# Altium footprint library Connector_PinHeader_2.54mm.PcbLib: 278 footprints (part 10 of 18)
Each footprint in its own frame and in the unit in brackets; x right, y up, seen from the top. Pads: shape width x height; smd on the part's side, far side on the other; paste and mask are expansions set on the pad; w line width, h text height; cw(c..) or ccw(c..) is an arc to the next point about the centre after c.
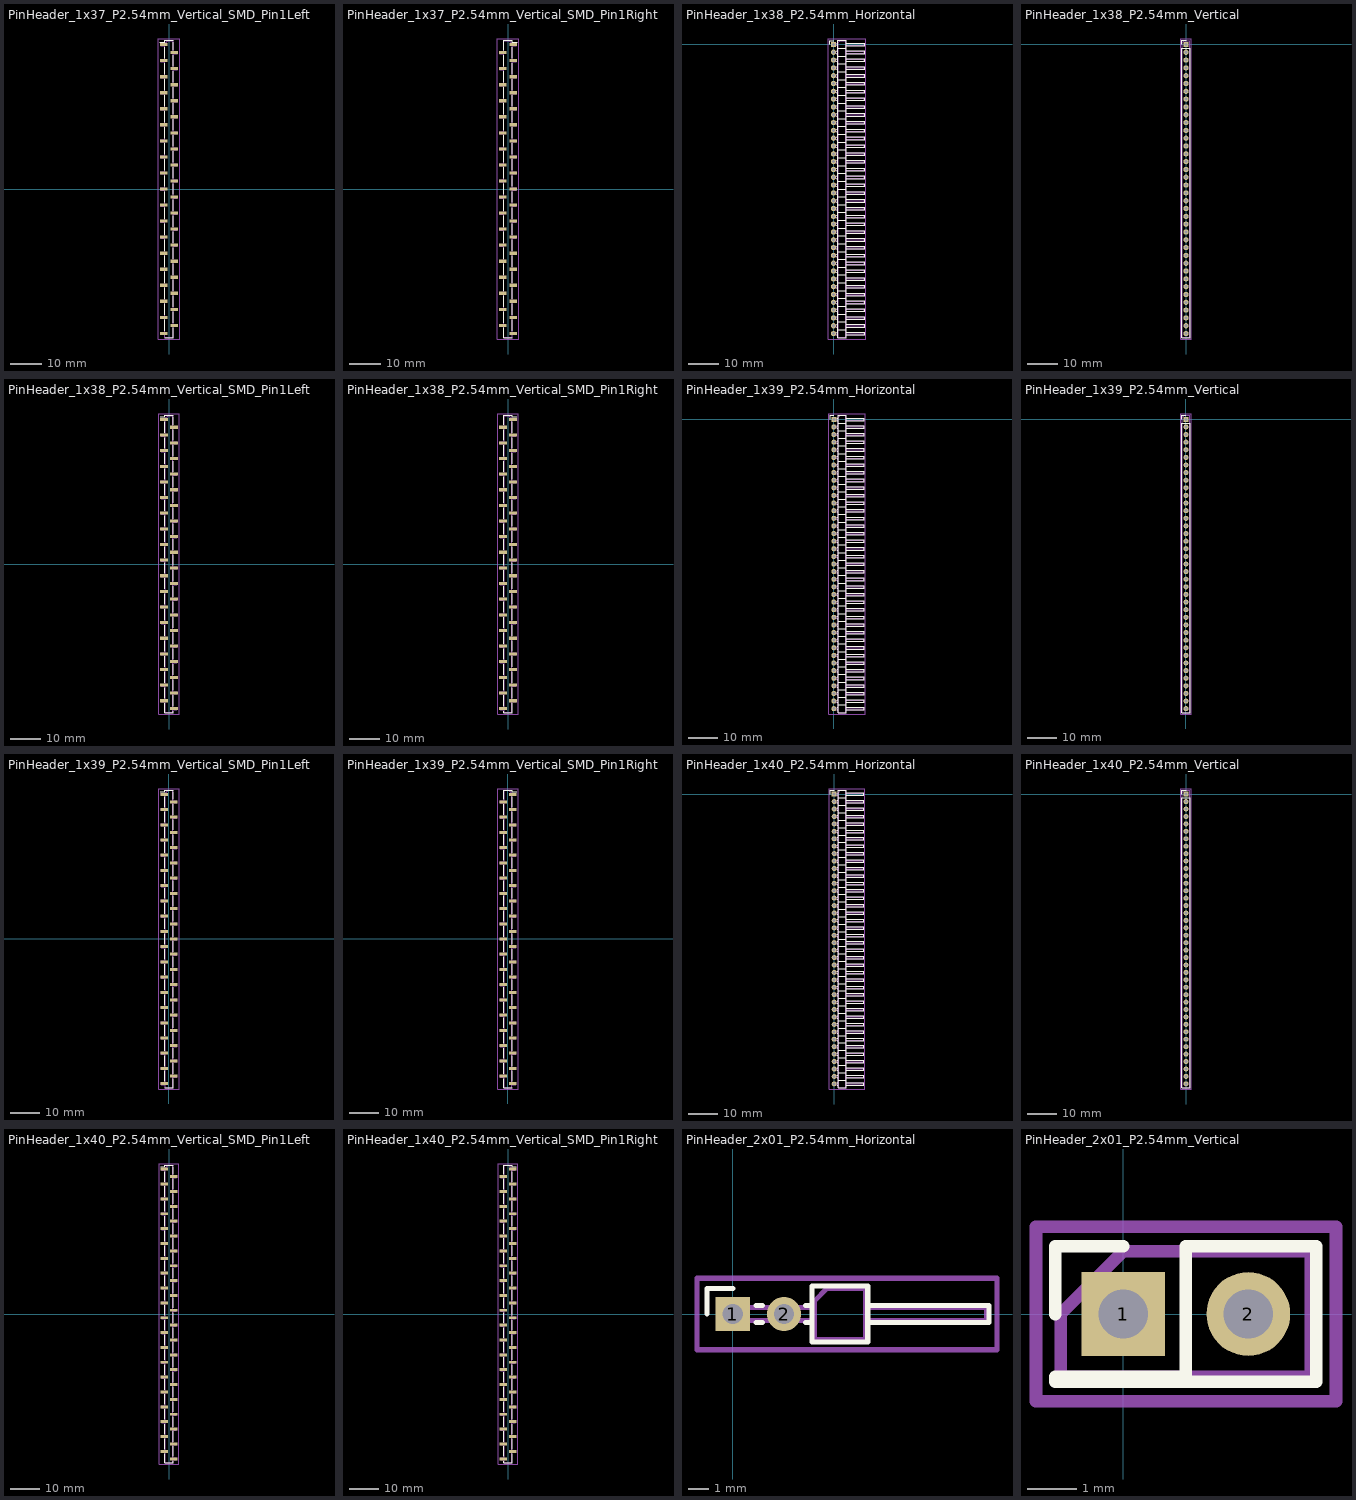
[diagram p9: the footprints below, top view; thin cyan lines are the x and y axes]

## PinHeader_1x37_P2.54mm_Vertical_SMD_Pin1Left [mm]
pads (37):
  rect 2.51x1 smd: 1(-1.655,45.72) 2(1.655,43.18) 3(-1.655,40.64) 4(1.655,38.1) 5(-1.655,35.56) 6(1.655,33.02) 7(-1.655,30.48) 8(1.655,27.94) 9(-1.655,25.4) 10(1.655,22.86) 11(-1.655,20.32) 12(1.655,17.78) 13(-1.655,15.24) 14(1.655,12.7) 15(-1.655,10.16) 16(1.655,7.62) 17(-1.655,5.08) 18(1.655,2.54) 19(-1.655,0) 20(1.655,-2.54) 21(-1.655,-5.08) 22(1.655,-7.62) 23(-1.655,-10.16) 24(1.655,-12.7) 25(-1.655,-15.24) 26(1.655,-17.78) 27(-1.655,-20.32) 28(1.655,-22.86) 29(-1.655,-25.4) 30(1.655,-27.94) 31(-1.655,-30.48) 32(1.655,-33.02) 33(-1.655,-35.56) 34(1.655,-38.1) 35(-1.655,-40.64) 36(1.655,-43.18) 37(-1.655,-45.72)
F.SilkS:
  lines w0.254: -2.85,46.53 -1.38,46.53 -1.38,47.1 1.38,47.1 ; -1.38,-47.1 1.38,-47.1 ; -1.38,-44.91 -1.38,-41.45 ; -1.38,-39.83 -1.38,-36.37 ; -1.38,-34.75 -1.38,-31.29 ; -1.38,-29.67 -1.38,-26.21 ; -1.38,-24.59 -1.38,-21.13 ; -1.38,-19.51 -1.38,-16.05 ; -1.38,-14.43 -1.38,-10.97 ; -1.38,-9.35 -1.38,-5.89 ; -1.38,-4.27 -1.38,-0.81 ; -1.38,0.81 -1.38,4.27 ; -1.38,5.89 -1.38,9.35 ; -1.38,10.97 -1.38,14.43 ; -1.38,16.05 -1.38,19.51 ; -1.38,21.13 -1.38,24.59 ; -1.38,26.21 -1.38,29.67 ; -1.38,31.29 -1.38,34.75 ; -1.38,36.37 -1.38,39.83 ; -1.38,41.45 -1.38,44.91 ; 1.38,-46.53 1.38,-47.1 ; 1.38,-43.99 1.38,-47.1 ; 1.38,-42.37 1.38,-38.91 ; 1.38,-37.29 1.38,-33.83 ; 1.38,-32.21 1.38,-28.75 ; 1.38,-27.13 1.38,-23.67 ; 1.38,-22.05 1.38,-18.59 ; 1.38,-16.97 1.38,-13.51 ; 1.38,-11.89 1.38,-8.43 ; 1.38,-6.81 1.38,-3.35 ; 1.38,-1.73 1.38,1.73 ; 1.38,3.35 1.38,6.81 ; 1.38,8.43 1.38,11.89 ; 1.38,13.51 1.38,16.97 ; 1.38,18.59 1.38,22.05 ; 1.38,23.67 1.38,27.13 ; 1.38,28.75 1.38,32.21 ; 1.38,33.83 1.38,37.29 ; 1.38,38.91 1.38,42.37 ; 1.38,43.99 1.38,46.53
Top Assembly:
  lines w0.254: -1.27,-46.04 -2.54,-46.04 -2.54,-45.4 -1.27,-45.4 ; -1.27,-40.96 -2.54,-40.96 -2.54,-40.32 -1.27,-40.32 ; -1.27,-35.88 -2.54,-35.88 -2.54,-35.24 -1.27,-35.24 ; -1.27,-30.8 -2.54,-30.8 -2.54,-30.16 -1.27,-30.16 ; -1.27,-25.72 -2.54,-25.72 -2.54,-25.08 -1.27,-25.08 ; -1.27,-20.64 -2.54,-20.64 -2.54,-20 -1.27,-20 ; -1.27,-15.56 -2.54,-15.56 -2.54,-14.92 -1.27,-14.92 ; -1.27,-10.48 -2.54,-10.48 -2.54,-9.84 -1.27,-9.84 ; -1.27,-5.4 -2.54,-5.4 -2.54,-4.76 -1.27,-4.76 ; -1.27,-0.32 -2.54,-0.32 -2.54,0.32 -1.27,0.32 ; -1.27,4.76 -2.54,4.76 -2.54,5.4 -1.27,5.4 ; -1.27,9.84 -2.54,9.84 -2.54,10.48 -1.27,10.48 ; -1.27,14.92 -2.54,14.92 -2.54,15.56 -1.27,15.56 ; -1.27,20 -2.54,20 -2.54,20.64 -1.27,20.64 ; -1.27,25.08 -2.54,25.08 -2.54,25.72 -1.27,25.72 ; -1.27,30.16 -2.54,30.16 -2.54,30.8 -1.27,30.8 ; -1.27,35.24 -2.54,35.24 -2.54,35.88 -1.27,35.88 ; -1.27,40.32 -2.54,40.32 -2.54,40.96 -1.27,40.96 ; -1.27,45.4 -2.54,45.4 -2.54,46.04 -1.27,46.04 ; 1.27,-43.5 2.54,-43.5 2.54,-42.86 1.27,-42.86 ; 1.27,-38.42 2.54,-38.42 2.54,-37.78 1.27,-37.78 ; 1.27,-33.34 2.54,-33.34 2.54,-32.7 1.27,-32.7 ; 1.27,-28.26 2.54,-28.26 2.54,-27.62 1.27,-27.62 ; 1.27,-23.18 2.54,-23.18 2.54,-22.54 1.27,-22.54 ; 1.27,-18.1 2.54,-18.1 2.54,-17.46 1.27,-17.46 ; 1.27,-13.02 2.54,-13.02 2.54,-12.38 1.27,-12.38 ; 1.27,-7.94 2.54,-7.94 2.54,-7.3 1.27,-7.3 ; 1.27,-2.86 2.54,-2.86 2.54,-2.22 1.27,-2.22 ; 1.27,2.22 2.54,2.22 2.54,2.86 1.27,2.86 ; 1.27,7.3 2.54,7.3 2.54,7.94 1.27,7.94 ; 1.27,12.38 2.54,12.38 2.54,13.02 1.27,13.02 ; 1.27,17.46 2.54,17.46 2.54,18.1 1.27,18.1 ; 1.27,22.54 2.54,22.54 2.54,23.18 1.27,23.18 ; 1.27,27.62 2.54,27.62 2.54,28.26 1.27,28.26 ; 1.27,32.7 2.54,32.7 2.54,33.34 1.27,33.34 ; 1.27,37.78 2.54,37.78 2.54,38.42 1.27,38.42 ; 1.27,42.86 2.54,42.86 2.54,43.5 1.27,43.5 ; -1.27,46.04 -1.27,-46.99 1.27,-46.99 1.27,46.99 -0.32,46.99 -1.27,46.04
  text "'.Designator'" at 0.84,-4.047 h1
Top Courtyard:
  lines w0.254: -3.41,-47.49 3.41,-47.49 3.41,47.49 -3.41,47.49 -3.41,-47.49
Top Designator:
  text ".Designator" at -7.618,-0.508 h1.52

## PinHeader_1x37_P2.54mm_Vertical_SMD_Pin1Right [mm]
pads (37):
  rect 2.51x1 smd: 1(1.655,45.72) 2(-1.655,43.18) 3(1.655,40.64) 4(-1.655,38.1) 5(1.655,35.56) 6(-1.655,33.02) 7(1.655,30.48) 8(-1.655,27.94) 9(1.655,25.4) 10(-1.655,22.86) 11(1.655,20.32) 12(-1.655,17.78) 13(1.655,15.24) 14(-1.655,12.7) 15(1.655,10.16) 16(-1.655,7.62) 17(1.655,5.08) 18(-1.655,2.54) 19(1.655,0) 20(-1.655,-2.54) 21(1.655,-5.08) 22(-1.655,-7.62) 23(1.655,-10.16) 24(-1.655,-12.7) 25(1.655,-15.24) 26(-1.655,-17.78) 27(1.655,-20.32) 28(-1.655,-22.86) 29(1.655,-25.4) 30(-1.655,-27.94) 31(1.655,-30.48) 32(-1.655,-33.02) 33(1.655,-35.56) 34(-1.655,-38.1) 35(1.655,-40.64) 36(-1.655,-43.18) 37(1.655,-45.72)
F.SilkS:
  lines w0.254: -1.38,-46.53 -1.38,-47.1 ; -1.38,-43.99 -1.38,-47.1 ; -1.38,-42.37 -1.38,-38.91 ; -1.38,-37.29 -1.38,-33.83 ; -1.38,-32.21 -1.38,-28.75 ; -1.38,-27.13 -1.38,-23.67 ; -1.38,-22.05 -1.38,-18.59 ; -1.38,-16.97 -1.38,-13.51 ; -1.38,-11.89 -1.38,-8.43 ; -1.38,-6.81 -1.38,-3.35 ; -1.38,-1.73 -1.38,1.73 ; -1.38,3.35 -1.38,6.81 ; -1.38,8.43 -1.38,11.89 ; -1.38,13.51 -1.38,16.97 ; -1.38,18.59 -1.38,22.05 ; -1.38,23.67 -1.38,27.13 ; -1.38,28.75 -1.38,32.21 ; -1.38,33.83 -1.38,37.29 ; -1.38,38.91 -1.38,42.37 ; -1.38,46.53 -1.38,43.99 -1.38,47.1 1.38,47.1 1.38,46.53 2.85,46.53 ; 1.38,-47.1 -1.38,-47.1 ; 1.38,-44.91 1.38,-41.45 ; 1.38,-39.83 1.38,-36.37 ; 1.38,-34.75 1.38,-31.29 ; 1.38,-29.67 1.38,-26.21 ; 1.38,-24.59 1.38,-21.13 ; 1.38,-19.51 1.38,-16.05 ; 1.38,-14.43 1.38,-10.97 ; 1.38,-9.35 1.38,-5.89 ; 1.38,-4.27 1.38,-0.81 ; 1.38,0.81 1.38,4.27 ; 1.38,5.89 1.38,9.35 ; 1.38,10.97 1.38,14.43 ; 1.38,16.05 1.38,19.51 ; 1.38,21.13 1.38,24.59 ; 1.38,26.21 1.38,29.67 ; 1.38,31.29 1.38,34.75 ; 1.38,36.37 1.38,39.83 ; 1.38,41.45 1.38,44.91
Top Assembly:
  lines w0.254: -1.27,-43.5 -2.54,-43.5 -2.54,-42.86 -1.27,-42.86 ; -1.27,-38.42 -2.54,-38.42 -2.54,-37.78 -1.27,-37.78 ; -1.27,-33.34 -2.54,-33.34 -2.54,-32.7 -1.27,-32.7 ; -1.27,-28.26 -2.54,-28.26 -2.54,-27.62 -1.27,-27.62 ; -1.27,-23.18 -2.54,-23.18 -2.54,-22.54 -1.27,-22.54 ; -1.27,-18.1 -2.54,-18.1 -2.54,-17.46 -1.27,-17.46 ; -1.27,-13.02 -2.54,-13.02 -2.54,-12.38 -1.27,-12.38 ; -1.27,-7.94 -2.54,-7.94 -2.54,-7.3 -1.27,-7.3 ; -1.27,-2.86 -2.54,-2.86 -2.54,-2.22 -1.27,-2.22 ; -1.27,2.22 -2.54,2.22 -2.54,2.86 -1.27,2.86 ; -1.27,7.3 -2.54,7.3 -2.54,7.94 -1.27,7.94 ; -1.27,12.38 -2.54,12.38 -2.54,13.02 -1.27,13.02 ; -1.27,17.46 -2.54,17.46 -2.54,18.1 -1.27,18.1 ; -1.27,22.54 -2.54,22.54 -2.54,23.18 -1.27,23.18 ; -1.27,27.62 -2.54,27.62 -2.54,28.26 -1.27,28.26 ; -1.27,32.7 -2.54,32.7 -2.54,33.34 -1.27,33.34 ; -1.27,37.78 -2.54,37.78 -2.54,38.42 -1.27,38.42 ; -1.27,42.86 -2.54,42.86 -2.54,43.5 -1.27,43.5 ; 1.27,-46.04 2.54,-46.04 2.54,-45.4 1.27,-45.4 ; 1.27,-40.96 2.54,-40.96 2.54,-40.32 1.27,-40.32 ; 1.27,-35.88 2.54,-35.88 2.54,-35.24 1.27,-35.24 ; 1.27,-30.8 2.54,-30.8 2.54,-30.16 1.27,-30.16 ; 1.27,-25.72 2.54,-25.72 2.54,-25.08 1.27,-25.08 ; 1.27,-20.64 2.54,-20.64 2.54,-20 1.27,-20 ; 1.27,-15.56 2.54,-15.56 2.54,-14.92 1.27,-14.92 ; 1.27,-10.48 2.54,-10.48 2.54,-9.84 1.27,-9.84 ; 1.27,-5.4 2.54,-5.4 2.54,-4.76 1.27,-4.76 ; 1.27,-0.32 2.54,-0.32 2.54,0.32 1.27,0.32 ; 1.27,4.76 2.54,4.76 2.54,5.4 1.27,5.4 ; 1.27,9.84 2.54,9.84 2.54,10.48 1.27,10.48 ; 1.27,14.92 2.54,14.92 2.54,15.56 1.27,15.56 ; 1.27,20 2.54,20 2.54,20.64 1.27,20.64 ; 1.27,25.08 2.54,25.08 2.54,25.72 1.27,25.72 ; 1.27,30.16 2.54,30.16 2.54,30.8 1.27,30.8 ; 1.27,35.24 2.54,35.24 2.54,35.88 1.27,35.88 ; 1.27,40.32 2.54,40.32 2.54,40.96 1.27,40.96 ; 1.27,45.4 2.54,45.4 2.54,46.04 1.27,46.04 ; 1.27,46.04 1.27,-46.99 -1.27,-46.99 -1.27,46.99 0.32,46.99 1.27,46.04
  text "'.Designator'" at 0.84,-4.047 h1
Top Courtyard:
  lines w0.254: -3.41,-47.49 3.41,-47.49 3.41,47.49 -3.41,47.49 -3.41,-47.49
Top Designator:
  text ".Designator" at -7.618,-0.508 h1.52

## PinHeader_1x38_P2.54mm_Horizontal [mm]
pads (38):
  rect 1.7x1.7 hole 1: 1(0,0)
  round 1.7 hole 1: 2(0,-2.54) 3(0,-5.08) 4(0,-7.62) 5(0,-10.16) 6(0,-12.7) 7(0,-15.24) 8(0,-17.78) 9(0,-20.32) 10(0,-22.86) 11(0,-25.4) 12(0,-27.94) 13(0,-30.48) 14(0,-33.02) 15(0,-35.56) 16(0,-38.1) 17(0,-40.64) 18(0,-43.18) 19(0,-45.72) 20(0,-48.26) 21(0,-50.8) 22(0,-53.34) 23(0,-55.88) 24(0,-58.42) 25(0,-60.96) 26(0,-63.5) 27(0,-66.04) 28(0,-68.58) 29(0,-71.12) 30(0,-73.66) 31(0,-76.2) 32(0,-78.74) 33(0,-81.28) 34(0,-83.82) 35(0,-86.36) 36(0,-88.9) 37(0,-91.44) 38(0,-93.98)
F.SilkS:
  drawing of 234 lines, arcs and shapes, not listed
Top Assembly:
  drawing of 233 lines, arcs and shapes, not listed
  text "'.Designator'" at 3.61,-51.037 h1
Top Courtyard:
  lines w0.254: -1.77,-95.75 10.54,-95.75 10.54,1.77 -1.77,1.77 -1.77,-95.75
Top Designator:
  text ".Designator" at -3.233,-47.498 h1.52

## PinHeader_1x38_P2.54mm_Vertical [mm]
pads (38):
  rect 1.7x1.7 hole 1: 1(0,0)
  round 1.7 hole 1: 2(0,-2.54) 3(0,-5.08) 4(0,-7.62) 5(0,-10.16) 6(0,-12.7) 7(0,-15.24) 8(0,-17.78) 9(0,-20.32) 10(0,-22.86) 11(0,-25.4) 12(0,-27.94) 13(0,-30.48) 14(0,-33.02) 15(0,-35.56) 16(0,-38.1) 17(0,-40.64) 18(0,-43.18) 19(0,-45.72) 20(0,-48.26) 21(0,-50.8) 22(0,-53.34) 23(0,-55.88) 24(0,-58.42) 25(0,-60.96) 26(0,-63.5) 27(0,-66.04) 28(0,-68.58) 29(0,-71.12) 30(0,-73.66) 31(0,-76.2) 32(0,-78.74) 33(0,-81.28) 34(0,-83.82) 35(0,-86.36) 36(0,-88.9) 37(0,-91.44) 38(0,-93.98)
F.SilkS:
  lines w0.254: -1.38,0 -1.38,1.38 0,1.38 ; -1.38,-95.36 1.38,-95.36 1.38,-1.27 -1.38,-1.27 -1.38,-95.36
Top Assembly:
  lines w0.254: -1.27,-95.25 1.27,-95.25 1.27,1.27 -0.635,1.27 -1.27,0.635 -1.27,-95.25
  text "'.Designator'" at 0.84,-51.037 h1
Top Courtyard:
  lines w0.254: -1.77,-95.75 1.77,-95.75 1.77,1.77 -1.77,1.77 -1.77,-95.75
Top Designator:
  text ".Designator" at -7.618,-47.498 h1.52

## PinHeader_1x38_P2.54mm_Vertical_SMD_Pin1Left [mm]
pads (38):
  rect 2.51x1 smd: 1(-1.655,46.99) 2(1.655,44.45) 3(-1.655,41.91) 4(1.655,39.37) 5(-1.655,36.83) 6(1.655,34.29) 7(-1.655,31.75) 8(1.655,29.21) 9(-1.655,26.67) 10(1.655,24.13) 11(-1.655,21.59) 12(1.655,19.05) 13(-1.655,16.51) 14(1.655,13.97) 15(-1.655,11.43) 16(1.655,8.89) 17(-1.655,6.35) 18(1.655,3.81) 19(-1.655,1.27) 20(1.655,-1.27) 21(-1.655,-3.81) 22(1.655,-6.35) 23(-1.655,-8.89) 24(1.655,-11.43) 25(-1.655,-13.97) 26(1.655,-16.51) 27(-1.655,-19.05) 28(1.655,-21.59) 29(-1.655,-24.13) 30(1.655,-26.67) 31(-1.655,-29.21) 32(1.655,-31.75) 33(-1.655,-34.29) 34(1.655,-36.83) 35(-1.655,-39.37) 36(1.655,-41.91) 37(-1.655,-44.45) 38(1.655,-46.99)
F.SilkS:
  lines w0.254: -2.85,47.8 -1.38,47.8 -1.38,48.37 1.38,48.37 ; -1.38,-45.26 -1.38,-48.37 1.38,-48.37 1.38,-47.8 ; -1.38,-43.64 -1.38,-40.18 ; -1.38,-38.56 -1.38,-35.1 ; -1.38,-33.48 -1.38,-30.02 ; -1.38,-28.4 -1.38,-24.94 ; -1.38,-23.32 -1.38,-19.86 ; -1.38,-18.24 -1.38,-14.78 ; -1.38,-13.16 -1.38,-9.7 ; -1.38,-8.08 -1.38,-4.62 ; -1.38,-3 -1.38,0.46 ; -1.38,2.08 -1.38,5.54 ; -1.38,7.16 -1.38,10.62 ; -1.38,12.24 -1.38,15.7 ; -1.38,17.32 -1.38,20.78 ; -1.38,22.4 -1.38,25.86 ; -1.38,27.48 -1.38,30.94 ; -1.38,32.56 -1.38,36.02 ; -1.38,37.64 -1.38,41.1 ; -1.38,42.72 -1.38,46.18 ; 1.38,-46.18 1.38,-42.72 ; 1.38,-41.1 1.38,-37.64 ; 1.38,-36.02 1.38,-32.56 ; 1.38,-30.94 1.38,-27.48 ; 1.38,-25.86 1.38,-22.4 ; 1.38,-20.78 1.38,-17.32 ; 1.38,-15.7 1.38,-12.24 ; 1.38,-10.62 1.38,-7.16 ; 1.38,-5.54 1.38,-2.08 ; 1.38,-0.46 1.38,3 ; 1.38,4.62 1.38,8.08 ; 1.38,9.7 1.38,13.16 ; 1.38,14.78 1.38,18.24 ; 1.38,19.86 1.38,23.32 ; 1.38,24.94 1.38,28.4 ; 1.38,30.02 1.38,33.48 ; 1.38,35.1 1.38,38.56 ; 1.38,40.18 1.38,43.64 ; 1.38,45.26 1.38,47.8
Top Assembly:
  lines w0.254: -1.27,-44.77 -2.54,-44.77 -2.54,-44.13 -1.27,-44.13 ; -1.27,-39.69 -2.54,-39.69 -2.54,-39.05 -1.27,-39.05 ; -1.27,-34.61 -2.54,-34.61 -2.54,-33.97 -1.27,-33.97 ; -1.27,-29.53 -2.54,-29.53 -2.54,-28.89 -1.27,-28.89 ; -1.27,-24.45 -2.54,-24.45 -2.54,-23.81 -1.27,-23.81 ; -1.27,-19.37 -2.54,-19.37 -2.54,-18.73 -1.27,-18.73 ; -1.27,-14.29 -2.54,-14.29 -2.54,-13.65 -1.27,-13.65 ; -1.27,-9.21 -2.54,-9.21 -2.54,-8.57 -1.27,-8.57 ; -1.27,-4.13 -2.54,-4.13 -2.54,-3.49 -1.27,-3.49 ; -1.27,0.95 -2.54,0.95 -2.54,1.59 -1.27,1.59 ; -1.27,6.03 -2.54,6.03 -2.54,6.67 -1.27,6.67 ; -1.27,11.11 -2.54,11.11 -2.54,11.75 -1.27,11.75 ; -1.27,16.19 -2.54,16.19 -2.54,16.83 -1.27,16.83 ; -1.27,21.27 -2.54,21.27 -2.54,21.91 -1.27,21.91 ; -1.27,26.35 -2.54,26.35 -2.54,26.99 -1.27,26.99 ; -1.27,31.43 -2.54,31.43 -2.54,32.07 -1.27,32.07 ; -1.27,36.51 -2.54,36.51 -2.54,37.15 -1.27,37.15 ; -1.27,41.59 -2.54,41.59 -2.54,42.23 -1.27,42.23 ; -1.27,46.67 -2.54,46.67 -2.54,47.31 -1.27,47.31 ; 1.27,-47.31 2.54,-47.31 2.54,-46.67 1.27,-46.67 ; 1.27,-42.23 2.54,-42.23 2.54,-41.59 1.27,-41.59 ; 1.27,-37.15 2.54,-37.15 2.54,-36.51 1.27,-36.51 ; 1.27,-32.07 2.54,-32.07 2.54,-31.43 1.27,-31.43 ; 1.27,-26.99 2.54,-26.99 2.54,-26.35 1.27,-26.35 ; 1.27,-21.91 2.54,-21.91 2.54,-21.27 1.27,-21.27 ; 1.27,-16.83 2.54,-16.83 2.54,-16.19 1.27,-16.19 ; 1.27,-11.75 2.54,-11.75 2.54,-11.11 1.27,-11.11 ; 1.27,-6.67 2.54,-6.67 2.54,-6.03 1.27,-6.03 ; 1.27,-1.59 2.54,-1.59 2.54,-0.95 1.27,-0.95 ; 1.27,3.49 2.54,3.49 2.54,4.13 1.27,4.13 ; 1.27,8.57 2.54,8.57 2.54,9.21 1.27,9.21 ; 1.27,13.65 2.54,13.65 2.54,14.29 1.27,14.29 ; 1.27,18.73 2.54,18.73 2.54,19.37 1.27,19.37 ; 1.27,23.81 2.54,23.81 2.54,24.45 1.27,24.45 ; 1.27,28.89 2.54,28.89 2.54,29.53 1.27,29.53 ; 1.27,33.97 2.54,33.97 2.54,34.61 1.27,34.61 ; 1.27,39.05 2.54,39.05 2.54,39.69 1.27,39.69 ; 1.27,44.13 2.54,44.13 2.54,44.77 1.27,44.77 ; -1.27,47.31 -1.27,-48.26 1.27,-48.26 1.27,48.26 -0.32,48.26 -1.27,47.31
  text "'.Designator'" at 0.84,-4.047 h1
Top Courtyard:
  lines w0.254: -3.41,-48.76 3.41,-48.76 3.41,48.76 -3.41,48.76 -3.41,-48.76
Top Designator:
  text ".Designator" at -7.618,-0.508 h1.52

## PinHeader_1x38_P2.54mm_Vertical_SMD_Pin1Right [mm]
pads (38):
  rect 2.51x1 smd: 1(1.655,46.99) 2(-1.655,44.45) 3(1.655,41.91) 4(-1.655,39.37) 5(1.655,36.83) 6(-1.655,34.29) 7(1.655,31.75) 8(-1.655,29.21) 9(1.655,26.67) 10(-1.655,24.13) 11(1.655,21.59) 12(-1.655,19.05) 13(1.655,16.51) 14(-1.655,13.97) 15(1.655,11.43) 16(-1.655,8.89) 17(1.655,6.35) 18(-1.655,3.81) 19(1.655,1.27) 20(-1.655,-1.27) 21(1.655,-3.81) 22(-1.655,-6.35) 23(1.655,-8.89) 24(-1.655,-11.43) 25(1.655,-13.97) 26(-1.655,-16.51) 27(1.655,-19.05) 28(-1.655,-21.59) 29(1.655,-24.13) 30(-1.655,-26.67) 31(1.655,-29.21) 32(-1.655,-31.75) 33(1.655,-34.29) 34(-1.655,-36.83) 35(1.655,-39.37) 36(-1.655,-41.91) 37(1.655,-44.45) 38(-1.655,-46.99)
F.SilkS:
  lines w0.254: -1.38,-47.8 -1.38,-48.37 1.38,-48.37 1.38,-45.26 ; -1.38,-46.18 -1.38,-42.72 ; -1.38,-41.1 -1.38,-37.64 ; -1.38,-36.02 -1.38,-32.56 ; -1.38,-30.94 -1.38,-27.48 ; -1.38,-25.86 -1.38,-22.4 ; -1.38,-20.78 -1.38,-17.32 ; -1.38,-15.7 -1.38,-12.24 ; -1.38,-10.62 -1.38,-7.16 ; -1.38,-5.54 -1.38,-2.08 ; -1.38,-0.46 -1.38,3 ; -1.38,4.62 -1.38,8.08 ; -1.38,9.7 -1.38,13.16 ; -1.38,14.78 -1.38,18.24 ; -1.38,19.86 -1.38,23.32 ; -1.38,24.94 -1.38,28.4 ; -1.38,30.02 -1.38,33.48 ; -1.38,35.1 -1.38,38.56 ; -1.38,40.18 -1.38,43.64 ; -1.38,47.8 -1.38,45.26 -1.38,48.37 1.38,48.37 1.38,47.8 2.85,47.8 ; 1.38,-43.64 1.38,-40.18 ; 1.38,-38.56 1.38,-35.1 ; 1.38,-33.48 1.38,-30.02 ; 1.38,-28.4 1.38,-24.94 ; 1.38,-23.32 1.38,-19.86 ; 1.38,-18.24 1.38,-14.78 ; 1.38,-13.16 1.38,-9.7 ; 1.38,-8.08 1.38,-4.62 ; 1.38,-3 1.38,0.46 ; 1.38,2.08 1.38,5.54 ; 1.38,7.16 1.38,10.62 ; 1.38,12.24 1.38,15.7 ; 1.38,17.32 1.38,20.78 ; 1.38,22.4 1.38,25.86 ; 1.38,27.48 1.38,30.94 ; 1.38,32.56 1.38,36.02 ; 1.38,37.64 1.38,41.1 ; 1.38,42.72 1.38,46.18
Top Assembly:
  lines w0.254: -1.27,-47.31 -2.54,-47.31 -2.54,-46.67 -1.27,-46.67 ; -1.27,-42.23 -2.54,-42.23 -2.54,-41.59 -1.27,-41.59 ; -1.27,-37.15 -2.54,-37.15 -2.54,-36.51 -1.27,-36.51 ; -1.27,-32.07 -2.54,-32.07 -2.54,-31.43 -1.27,-31.43 ; -1.27,-26.99 -2.54,-26.99 -2.54,-26.35 -1.27,-26.35 ; -1.27,-21.91 -2.54,-21.91 -2.54,-21.27 -1.27,-21.27 ; -1.27,-16.83 -2.54,-16.83 -2.54,-16.19 -1.27,-16.19 ; -1.27,-11.75 -2.54,-11.75 -2.54,-11.11 -1.27,-11.11 ; -1.27,-6.67 -2.54,-6.67 -2.54,-6.03 -1.27,-6.03 ; -1.27,-1.59 -2.54,-1.59 -2.54,-0.95 -1.27,-0.95 ; -1.27,3.49 -2.54,3.49 -2.54,4.13 -1.27,4.13 ; -1.27,8.57 -2.54,8.57 -2.54,9.21 -1.27,9.21 ; -1.27,13.65 -2.54,13.65 -2.54,14.29 -1.27,14.29 ; -1.27,18.73 -2.54,18.73 -2.54,19.37 -1.27,19.37 ; -1.27,23.81 -2.54,23.81 -2.54,24.45 -1.27,24.45 ; -1.27,28.89 -2.54,28.89 -2.54,29.53 -1.27,29.53 ; -1.27,33.97 -2.54,33.97 -2.54,34.61 -1.27,34.61 ; -1.27,39.05 -2.54,39.05 -2.54,39.69 -1.27,39.69 ; -1.27,44.13 -2.54,44.13 -2.54,44.77 -1.27,44.77 ; 1.27,-44.77 2.54,-44.77 2.54,-44.13 1.27,-44.13 ; 1.27,-39.69 2.54,-39.69 2.54,-39.05 1.27,-39.05 ; 1.27,-34.61 2.54,-34.61 2.54,-33.97 1.27,-33.97 ; 1.27,-29.53 2.54,-29.53 2.54,-28.89 1.27,-28.89 ; 1.27,-24.45 2.54,-24.45 2.54,-23.81 1.27,-23.81 ; 1.27,-19.37 2.54,-19.37 2.54,-18.73 1.27,-18.73 ; 1.27,-14.29 2.54,-14.29 2.54,-13.65 1.27,-13.65 ; 1.27,-9.21 2.54,-9.21 2.54,-8.57 1.27,-8.57 ; 1.27,-4.13 2.54,-4.13 2.54,-3.49 1.27,-3.49 ; 1.27,0.95 2.54,0.95 2.54,1.59 1.27,1.59 ; 1.27,6.03 2.54,6.03 2.54,6.67 1.27,6.67 ; 1.27,11.11 2.54,11.11 2.54,11.75 1.27,11.75 ; 1.27,16.19 2.54,16.19 2.54,16.83 1.27,16.83 ; 1.27,21.27 2.54,21.27 2.54,21.91 1.27,21.91 ; 1.27,26.35 2.54,26.35 2.54,26.99 1.27,26.99 ; 1.27,31.43 2.54,31.43 2.54,32.07 1.27,32.07 ; 1.27,36.51 2.54,36.51 2.54,37.15 1.27,37.15 ; 1.27,41.59 2.54,41.59 2.54,42.23 1.27,42.23 ; 1.27,46.67 2.54,46.67 2.54,47.31 1.27,47.31 ; 1.27,47.31 1.27,-48.26 -1.27,-48.26 -1.27,48.26 0.32,48.26 1.27,47.31
  text "'.Designator'" at 0.84,-4.047 h1
Top Courtyard:
  lines w0.254: -3.41,-48.76 3.41,-48.76 3.41,48.76 -3.41,48.76 -3.41,-48.76
Top Designator:
  text ".Designator" at -7.618,-0.508 h1.52

## PinHeader_1x39_P2.54mm_Horizontal [mm]
pads (39):
  rect 1.7x1.7 hole 1: 1(0,0)
  round 1.7 hole 1: 2(0,-2.54) 3(0,-5.08) 4(0,-7.62) 5(0,-10.16) 6(0,-12.7) 7(0,-15.24) 8(0,-17.78) 9(0,-20.32) 10(0,-22.86) 11(0,-25.4) 12(0,-27.94) 13(0,-30.48) 14(0,-33.02) 15(0,-35.56) 16(0,-38.1) 17(0,-40.64) 18(0,-43.18) 19(0,-45.72) 20(0,-48.26) 21(0,-50.8) 22(0,-53.34) 23(0,-55.88) 24(0,-58.42) 25(0,-60.96) 26(0,-63.5) 27(0,-66.04) 28(0,-68.58) 29(0,-71.12) 30(0,-73.66) 31(0,-76.2) 32(0,-78.74) 33(0,-81.28) 34(0,-83.82) 35(0,-86.36) 36(0,-88.9) 37(0,-91.44) 38(0,-93.98) 39(0,-96.52)
F.SilkS:
  drawing of 240 lines, arcs and shapes, not listed
Top Assembly:
  drawing of 239 lines, arcs and shapes, not listed
  text "'.Designator'" at 3.61,-52.307 h1
Top Courtyard:
  lines w0.254: -1.77,-98.29 10.54,-98.29 10.54,1.77 -1.77,1.77 -1.77,-98.29
Top Designator:
  text ".Designator" at -3.233,-48.768 h1.52

## PinHeader_1x39_P2.54mm_Vertical [mm]
pads (39):
  rect 1.7x1.7 hole 1: 1(0,0)
  round 1.7 hole 1: 2(0,-2.54) 3(0,-5.08) 4(0,-7.62) 5(0,-10.16) 6(0,-12.7) 7(0,-15.24) 8(0,-17.78) 9(0,-20.32) 10(0,-22.86) 11(0,-25.4) 12(0,-27.94) 13(0,-30.48) 14(0,-33.02) 15(0,-35.56) 16(0,-38.1) 17(0,-40.64) 18(0,-43.18) 19(0,-45.72) 20(0,-48.26) 21(0,-50.8) 22(0,-53.34) 23(0,-55.88) 24(0,-58.42) 25(0,-60.96) 26(0,-63.5) 27(0,-66.04) 28(0,-68.58) 29(0,-71.12) 30(0,-73.66) 31(0,-76.2) 32(0,-78.74) 33(0,-81.28) 34(0,-83.82) 35(0,-86.36) 36(0,-88.9) 37(0,-91.44) 38(0,-93.98) 39(0,-96.52)
F.SilkS:
  lines w0.254: -1.38,0 -1.38,1.38 0,1.38 ; -1.38,-97.9 1.38,-97.9 1.38,-1.27 -1.38,-1.27 -1.38,-97.9
Top Assembly:
  lines w0.254: -1.27,-97.79 1.27,-97.79 1.27,1.27 -0.635,1.27 -1.27,0.635 -1.27,-97.79
  text "'.Designator'" at 0.84,-52.307 h1
Top Courtyard:
  lines w0.254: -1.77,-98.29 1.77,-98.29 1.77,1.77 -1.77,1.77 -1.77,-98.29
Top Designator:
  text ".Designator" at -7.618,-48.768 h1.52

## PinHeader_1x39_P2.54mm_Vertical_SMD_Pin1Left [mm]
pads (39):
  rect 2.51x1 smd: 1(-1.655,48.26) 2(1.655,45.72) 3(-1.655,43.18) 4(1.655,40.64) 5(-1.655,38.1) 6(1.655,35.56) 7(-1.655,33.02) 8(1.655,30.48) 9(-1.655,27.94) 10(1.655,25.4) 11(-1.655,22.86) 12(1.655,20.32) 13(-1.655,17.78) 14(1.655,15.24) 15(-1.655,12.7) 16(1.655,10.16) 17(-1.655,7.62) 18(1.655,5.08) 19(-1.655,2.54) 20(1.655,0) 21(-1.655,-2.54) 22(1.655,-5.08) 23(-1.655,-7.62) 24(1.655,-10.16) 25(-1.655,-12.7) 26(1.655,-15.24) 27(-1.655,-17.78) 28(1.655,-20.32) 29(-1.655,-22.86) 30(1.655,-25.4) 31(-1.655,-27.94) 32(1.655,-30.48) 33(-1.655,-33.02) 34(1.655,-35.56) 35(-1.655,-38.1) 36(1.655,-40.64) 37(-1.655,-43.18) 38(1.655,-45.72) 39(-1.655,-48.26)
F.SilkS:
  lines w0.254: -2.85,49.07 -1.38,49.07 -1.38,49.64 1.38,49.64 ; -1.38,-49.64 1.38,-49.64 ; -1.38,-47.45 -1.38,-43.99 ; -1.38,-42.37 -1.38,-38.91 ; -1.38,-37.29 -1.38,-33.83 ; -1.38,-32.21 -1.38,-28.75 ; -1.38,-27.13 -1.38,-23.67 ; -1.38,-22.05 -1.38,-18.59 ; -1.38,-16.97 -1.38,-13.51 ; -1.38,-11.89 -1.38,-8.43 ; -1.38,-6.81 -1.38,-3.35 ; -1.38,-1.73 -1.38,1.73 ; -1.38,3.35 -1.38,6.81 ; -1.38,8.43 -1.38,11.89 ; -1.38,13.51 -1.38,16.97 ; -1.38,18.59 -1.38,22.05 ; -1.38,23.67 -1.38,27.13 ; -1.38,28.75 -1.38,32.21 ; -1.38,33.83 -1.38,37.29 ; -1.38,38.91 -1.38,42.37 ; -1.38,43.99 -1.38,47.45 ; 1.38,-49.07 1.38,-49.64 ; 1.38,-46.53 1.38,-49.64 ; 1.38,-44.91 1.38,-41.45 ; 1.38,-39.83 1.38,-36.37 ; 1.38,-34.75 1.38,-31.29 ; 1.38,-29.67 1.38,-26.21 ; 1.38,-24.59 1.38,-21.13 ; 1.38,-19.51 1.38,-16.05 ; 1.38,-14.43 1.38,-10.97 ; 1.38,-9.35 1.38,-5.89 ; 1.38,-4.27 1.38,-0.81 ; 1.38,0.81 1.38,4.27 ; 1.38,5.89 1.38,9.35 ; 1.38,10.97 1.38,14.43 ; 1.38,16.05 1.38,19.51 ; 1.38,21.13 1.38,24.59 ; 1.38,26.21 1.38,29.67 ; 1.38,31.29 1.38,34.75 ; 1.38,36.37 1.38,39.83 ; 1.38,41.45 1.38,44.91 ; 1.38,46.53 1.38,49.07
Top Assembly:
  lines w0.254: -1.27,-48.58 -2.54,-48.58 -2.54,-47.94 -1.27,-47.94 ; -1.27,-43.5 -2.54,-43.5 -2.54,-42.86 -1.27,-42.86 ; -1.27,-38.42 -2.54,-38.42 -2.54,-37.78 -1.27,-37.78 ; -1.27,-33.34 -2.54,-33.34 -2.54,-32.7 -1.27,-32.7 ; -1.27,-28.26 -2.54,-28.26 -2.54,-27.62 -1.27,-27.62 ; -1.27,-23.18 -2.54,-23.18 -2.54,-22.54 -1.27,-22.54 ; -1.27,-18.1 -2.54,-18.1 -2.54,-17.46 -1.27,-17.46 ; -1.27,-13.02 -2.54,-13.02 -2.54,-12.38 -1.27,-12.38 ; -1.27,-7.94 -2.54,-7.94 -2.54,-7.3 -1.27,-7.3 ; -1.27,-2.86 -2.54,-2.86 -2.54,-2.22 -1.27,-2.22 ; -1.27,2.22 -2.54,2.22 -2.54,2.86 -1.27,2.86 ; -1.27,7.3 -2.54,7.3 -2.54,7.94 -1.27,7.94 ; -1.27,12.38 -2.54,12.38 -2.54,13.02 -1.27,13.02 ; -1.27,17.46 -2.54,17.46 -2.54,18.1 -1.27,18.1 ; -1.27,22.54 -2.54,22.54 -2.54,23.18 -1.27,23.18 ; -1.27,27.62 -2.54,27.62 -2.54,28.26 -1.27,28.26 ; -1.27,32.7 -2.54,32.7 -2.54,33.34 -1.27,33.34 ; -1.27,37.78 -2.54,37.78 -2.54,38.42 -1.27,38.42 ; -1.27,42.86 -2.54,42.86 -2.54,43.5 -1.27,43.5 ; -1.27,47.94 -2.54,47.94 -2.54,48.58 -1.27,48.58 ; 1.27,-46.04 2.54,-46.04 2.54,-45.4 1.27,-45.4 ; 1.27,-40.96 2.54,-40.96 2.54,-40.32 1.27,-40.32 ; 1.27,-35.88 2.54,-35.88 2.54,-35.24 1.27,-35.24 ; 1.27,-30.8 2.54,-30.8 2.54,-30.16 1.27,-30.16 ; 1.27,-25.72 2.54,-25.72 2.54,-25.08 1.27,-25.08 ; 1.27,-20.64 2.54,-20.64 2.54,-20 1.27,-20 ; 1.27,-15.56 2.54,-15.56 2.54,-14.92 1.27,-14.92 ; 1.27,-10.48 2.54,-10.48 2.54,-9.84 1.27,-9.84 ; 1.27,-5.4 2.54,-5.4 2.54,-4.76 1.27,-4.76 ; 1.27,-0.32 2.54,-0.32 2.54,0.32 1.27,0.32 ; 1.27,4.76 2.54,4.76 2.54,5.4 1.27,5.4 ; 1.27,9.84 2.54,9.84 2.54,10.48 1.27,10.48 ; 1.27,14.92 2.54,14.92 2.54,15.56 1.27,15.56 ; 1.27,20 2.54,20 2.54,20.64 1.27,20.64 ; 1.27,25.08 2.54,25.08 2.54,25.72 1.27,25.72 ; 1.27,30.16 2.54,30.16 2.54,30.8 1.27,30.8 ; 1.27,35.24 2.54,35.24 2.54,35.88 1.27,35.88 ; 1.27,40.32 2.54,40.32 2.54,40.96 1.27,40.96 ; 1.27,45.4 2.54,45.4 2.54,46.04 1.27,46.04 ; -1.27,48.58 -1.27,-49.53 1.27,-49.53 1.27,49.53 -0.32,49.53 -1.27,48.58
  text "'.Designator'" at 0.84,-4.047 h1
Top Courtyard:
  lines w0.254: -3.41,-50.03 3.41,-50.03 3.41,50.03 -3.41,50.03 -3.41,-50.03
Top Designator:
  text ".Designator" at -7.618,-0.508 h1.52

## PinHeader_1x39_P2.54mm_Vertical_SMD_Pin1Right [mm]
pads (39):
  rect 2.51x1 smd: 1(1.655,48.26) 2(-1.655,45.72) 3(1.655,43.18) 4(-1.655,40.64) 5(1.655,38.1) 6(-1.655,35.56) 7(1.655,33.02) 8(-1.655,30.48) 9(1.655,27.94) 10(-1.655,25.4) 11(1.655,22.86) 12(-1.655,20.32) 13(1.655,17.78) 14(-1.655,15.24) 15(1.655,12.7) 16(-1.655,10.16) 17(1.655,7.62) 18(-1.655,5.08) 19(1.655,2.54) 20(-1.655,0) 21(1.655,-2.54) 22(-1.655,-5.08) 23(1.655,-7.62) 24(-1.655,-10.16) 25(1.655,-12.7) 26(-1.655,-15.24) 27(1.655,-17.78) 28(-1.655,-20.32) 29(1.655,-22.86) 30(-1.655,-25.4) 31(1.655,-27.94) 32(-1.655,-30.48) 33(1.655,-33.02) 34(-1.655,-35.56) 35(1.655,-38.1) 36(-1.655,-40.64) 37(1.655,-43.18) 38(-1.655,-45.72) 39(1.655,-48.26)
F.SilkS:
  lines w0.254: -1.38,-49.07 -1.38,-49.64 ; -1.38,-46.53 -1.38,-49.64 ; -1.38,-44.91 -1.38,-41.45 ; -1.38,-39.83 -1.38,-36.37 ; -1.38,-34.75 -1.38,-31.29 ; -1.38,-29.67 -1.38,-26.21 ; -1.38,-24.59 -1.38,-21.13 ; -1.38,-19.51 -1.38,-16.05 ; -1.38,-14.43 -1.38,-10.97 ; -1.38,-9.35 -1.38,-5.89 ; -1.38,-4.27 -1.38,-0.81 ; -1.38,0.81 -1.38,4.27 ; -1.38,5.89 -1.38,9.35 ; -1.38,10.97 -1.38,14.43 ; -1.38,16.05 -1.38,19.51 ; -1.38,21.13 -1.38,24.59 ; -1.38,26.21 -1.38,29.67 ; -1.38,31.29 -1.38,34.75 ; -1.38,36.37 -1.38,39.83 ; -1.38,41.45 -1.38,44.91 ; -1.38,49.07 -1.38,46.53 -1.38,49.64 1.38,49.64 1.38,49.07 2.85,49.07 ; 1.38,-49.64 -1.38,-49.64 ; 1.38,-47.45 1.38,-43.99 ; 1.38,-42.37 1.38,-38.91 ; 1.38,-37.29 1.38,-33.83 ; 1.38,-32.21 1.38,-28.75 ; 1.38,-27.13 1.38,-23.67 ; 1.38,-22.05 1.38,-18.59 ; 1.38,-16.97 1.38,-13.51 ; 1.38,-11.89 1.38,-8.43 ; 1.38,-6.81 1.38,-3.35 ; 1.38,-1.73 1.38,1.73 ; 1.38,3.35 1.38,6.81 ; 1.38,8.43 1.38,11.89 ; 1.38,13.51 1.38,16.97 ; 1.38,18.59 1.38,22.05 ; 1.38,23.67 1.38,27.13 ; 1.38,28.75 1.38,32.21 ; 1.38,33.83 1.38,37.29 ; 1.38,38.91 1.38,42.37 ; 1.38,43.99 1.38,47.45
Top Assembly:
  lines w0.254: -1.27,-46.04 -2.54,-46.04 -2.54,-45.4 -1.27,-45.4 ; -1.27,-40.96 -2.54,-40.96 -2.54,-40.32 -1.27,-40.32 ; -1.27,-35.88 -2.54,-35.88 -2.54,-35.24 -1.27,-35.24 ; -1.27,-30.8 -2.54,-30.8 -2.54,-30.16 -1.27,-30.16 ; -1.27,-25.72 -2.54,-25.72 -2.54,-25.08 -1.27,-25.08 ; -1.27,-20.64 -2.54,-20.64 -2.54,-20 -1.27,-20 ; -1.27,-15.56 -2.54,-15.56 -2.54,-14.92 -1.27,-14.92 ; -1.27,-10.48 -2.54,-10.48 -2.54,-9.84 -1.27,-9.84 ; -1.27,-5.4 -2.54,-5.4 -2.54,-4.76 -1.27,-4.76 ; -1.27,-0.32 -2.54,-0.32 -2.54,0.32 -1.27,0.32 ; -1.27,4.76 -2.54,4.76 -2.54,5.4 -1.27,5.4 ; -1.27,9.84 -2.54,9.84 -2.54,10.48 -1.27,10.48 ; -1.27,14.92 -2.54,14.92 -2.54,15.56 -1.27,15.56 ; -1.27,20 -2.54,20 -2.54,20.64 -1.27,20.64 ; -1.27,25.08 -2.54,25.08 -2.54,25.72 -1.27,25.72 ; -1.27,30.16 -2.54,30.16 -2.54,30.8 -1.27,30.8 ; -1.27,35.24 -2.54,35.24 -2.54,35.88 -1.27,35.88 ; -1.27,40.32 -2.54,40.32 -2.54,40.96 -1.27,40.96 ; -1.27,45.4 -2.54,45.4 -2.54,46.04 -1.27,46.04 ; 1.27,-48.58 2.54,-48.58 2.54,-47.94 1.27,-47.94 ; 1.27,-43.5 2.54,-43.5 2.54,-42.86 1.27,-42.86 ; 1.27,-38.42 2.54,-38.42 2.54,-37.78 1.27,-37.78 ; 1.27,-33.34 2.54,-33.34 2.54,-32.7 1.27,-32.7 ; 1.27,-28.26 2.54,-28.26 2.54,-27.62 1.27,-27.62 ; 1.27,-23.18 2.54,-23.18 2.54,-22.54 1.27,-22.54 ; 1.27,-18.1 2.54,-18.1 2.54,-17.46 1.27,-17.46 ; 1.27,-13.02 2.54,-13.02 2.54,-12.38 1.27,-12.38 ; 1.27,-7.94 2.54,-7.94 2.54,-7.3 1.27,-7.3 ; 1.27,-2.86 2.54,-2.86 2.54,-2.22 1.27,-2.22 ; 1.27,2.22 2.54,2.22 2.54,2.86 1.27,2.86 ; 1.27,7.3 2.54,7.3 2.54,7.94 1.27,7.94 ; 1.27,12.38 2.54,12.38 2.54,13.02 1.27,13.02 ; 1.27,17.46 2.54,17.46 2.54,18.1 1.27,18.1 ; 1.27,22.54 2.54,22.54 2.54,23.18 1.27,23.18 ; 1.27,27.62 2.54,27.62 2.54,28.26 1.27,28.26 ; 1.27,32.7 2.54,32.7 2.54,33.34 1.27,33.34 ; 1.27,37.78 2.54,37.78 2.54,38.42 1.27,38.42 ; 1.27,42.86 2.54,42.86 2.54,43.5 1.27,43.5 ; 1.27,47.94 2.54,47.94 2.54,48.58 1.27,48.58 ; 1.27,48.58 1.27,-49.53 -1.27,-49.53 -1.27,49.53 0.32,49.53 1.27,48.58
  text "'.Designator'" at 0.84,-4.047 h1
Top Courtyard:
  lines w0.254: -3.41,-50.03 3.41,-50.03 3.41,50.03 -3.41,50.03 -3.41,-50.03
Top Designator:
  text ".Designator" at -7.618,-0.508 h1.52

## PinHeader_1x40_P2.54mm_Horizontal [mm]
pads (40):
  rect 1.7x1.7 hole 1: 1(0,0)
  round 1.7 hole 1: 2(0,-2.54) 3(0,-5.08) 4(0,-7.62) 5(0,-10.16) 6(0,-12.7) 7(0,-15.24) 8(0,-17.78) 9(0,-20.32) 10(0,-22.86) 11(0,-25.4) 12(0,-27.94) 13(0,-30.48) 14(0,-33.02) 15(0,-35.56) 16(0,-38.1) 17(0,-40.64) 18(0,-43.18) 19(0,-45.72) 20(0,-48.26) 21(0,-50.8) 22(0,-53.34) 23(0,-55.88) 24(0,-58.42) 25(0,-60.96) 26(0,-63.5) 27(0,-66.04) 28(0,-68.58) 29(0,-71.12) 30(0,-73.66) 31(0,-76.2) 32(0,-78.74) 33(0,-81.28) 34(0,-83.82) 35(0,-86.36) 36(0,-88.9) 37(0,-91.44) 38(0,-93.98) 39(0,-96.52) 40(0,-99.06)
F.SilkS:
  drawing of 246 lines, arcs and shapes, not listed
Top Assembly:
  drawing of 245 lines, arcs and shapes, not listed
  text "'.Designator'" at 3.61,-53.577 h1
Top Courtyard:
  lines w0.254: -1.77,-100.83 10.54,-100.83 10.54,1.77 -1.77,1.77 -1.77,-100.83
Top Designator:
  text ".Designator" at -3.233,-50.038 h1.52

## PinHeader_1x40_P2.54mm_Vertical [mm]
pads (40):
  rect 1.7x1.7 hole 1: 1(0,0)
  round 1.7 hole 1: 2(0,-2.54) 3(0,-5.08) 4(0,-7.62) 5(0,-10.16) 6(0,-12.7) 7(0,-15.24) 8(0,-17.78) 9(0,-20.32) 10(0,-22.86) 11(0,-25.4) 12(0,-27.94) 13(0,-30.48) 14(0,-33.02) 15(0,-35.56) 16(0,-38.1) 17(0,-40.64) 18(0,-43.18) 19(0,-45.72) 20(0,-48.26) 21(0,-50.8) 22(0,-53.34) 23(0,-55.88) 24(0,-58.42) 25(0,-60.96) 26(0,-63.5) 27(0,-66.04) 28(0,-68.58) 29(0,-71.12) 30(0,-73.66) 31(0,-76.2) 32(0,-78.74) 33(0,-81.28) 34(0,-83.82) 35(0,-86.36) 36(0,-88.9) 37(0,-91.44) 38(0,-93.98) 39(0,-96.52) 40(0,-99.06)
F.SilkS:
  lines w0.254: -1.38,0 -1.38,1.38 0,1.38 ; -1.38,-100.44 1.38,-100.44 1.38,-1.27 -1.38,-1.27 -1.38,-100.44
Top Assembly:
  lines w0.254: -1.27,-100.33 1.27,-100.33 1.27,1.27 -0.635,1.27 -1.27,0.635 -1.27,-100.33
  text "'.Designator'" at 0.84,-53.577 h1
Top Courtyard:
  lines w0.254: -1.77,-100.83 1.77,-100.83 1.77,1.77 -1.77,1.77 -1.77,-100.83
Top Designator:
  text ".Designator" at -7.618,-50.038 h1.52

## PinHeader_1x40_P2.54mm_Vertical_SMD_Pin1Left [mm]
pads (40):
  rect 2.51x1 smd: 1(-1.655,49.53) 2(1.655,46.99) 3(-1.655,44.45) 4(1.655,41.91) 5(-1.655,39.37) 6(1.655,36.83) 7(-1.655,34.29) 8(1.655,31.75) 9(-1.655,29.21) 10(1.655,26.67) 11(-1.655,24.13) 12(1.655,21.59) 13(-1.655,19.05) 14(1.655,16.51) 15(-1.655,13.97) 16(1.655,11.43) 17(-1.655,8.89) 18(1.655,6.35) 19(-1.655,3.81) 20(1.655,1.27) 21(-1.655,-1.27) 22(1.655,-3.81) 23(-1.655,-6.35) 24(1.655,-8.89) 25(-1.655,-11.43) 26(1.655,-13.97) 27(-1.655,-16.51) 28(1.655,-19.05) 29(-1.655,-21.59) 30(1.655,-24.13) 31(-1.655,-26.67) 32(1.655,-29.21) 33(-1.655,-31.75) 34(1.655,-34.29) 35(-1.655,-36.83) 36(1.655,-39.37) 37(-1.655,-41.91) 38(1.655,-44.45) 39(-1.655,-46.99) 40(1.655,-49.53)
F.SilkS:
  lines w0.254: -2.85,50.34 -1.38,50.34 -1.38,50.91 1.38,50.91 ; -1.38,-47.8 -1.38,-50.91 1.38,-50.91 1.38,-50.34 ; -1.38,-46.18 -1.38,-42.72 ; -1.38,-41.1 -1.38,-37.64 ; -1.38,-36.02 -1.38,-32.56 ; -1.38,-30.94 -1.38,-27.48 ; -1.38,-25.86 -1.38,-22.4 ; -1.38,-20.78 -1.38,-17.32 ; -1.38,-15.7 -1.38,-12.24 ; -1.38,-10.62 -1.38,-7.16 ; -1.38,-5.54 -1.38,-2.08 ; -1.38,-0.46 -1.38,3 ; -1.38,4.62 -1.38,8.08 ; -1.38,9.7 -1.38,13.16 ; -1.38,14.78 -1.38,18.24 ; -1.38,19.86 -1.38,23.32 ; -1.38,24.94 -1.38,28.4 ; -1.38,30.02 -1.38,33.48 ; -1.38,35.1 -1.38,38.56 ; -1.38,40.18 -1.38,43.64 ; -1.38,45.26 -1.38,48.72 ; 1.38,-48.72 1.38,-45.26 ; 1.38,-43.64 1.38,-40.18 ; 1.38,-38.56 1.38,-35.1 ; 1.38,-33.48 1.38,-30.02 ; 1.38,-28.4 1.38,-24.94 ; 1.38,-23.32 1.38,-19.86 ; 1.38,-18.24 1.38,-14.78 ; 1.38,-13.16 1.38,-9.7 ; 1.38,-8.08 1.38,-4.62 ; 1.38,-3 1.38,0.46 ; 1.38,2.08 1.38,5.54 ; 1.38,7.16 1.38,10.62 ; 1.38,12.24 1.38,15.7 ; 1.38,17.32 1.38,20.78 ; 1.38,22.4 1.38,25.86 ; 1.38,27.48 1.38,30.94 ; 1.38,32.56 1.38,36.02 ; 1.38,37.64 1.38,41.1 ; 1.38,42.72 1.38,46.18 ; 1.38,47.8 1.38,50.34
Top Assembly:
  lines w0.254: -1.27,-47.31 -2.54,-47.31 -2.54,-46.67 -1.27,-46.67 ; -1.27,-42.23 -2.54,-42.23 -2.54,-41.59 -1.27,-41.59 ; -1.27,-37.15 -2.54,-37.15 -2.54,-36.51 -1.27,-36.51 ; -1.27,-32.07 -2.54,-32.07 -2.54,-31.43 -1.27,-31.43 ; -1.27,-26.99 -2.54,-26.99 -2.54,-26.35 -1.27,-26.35 ; -1.27,-21.91 -2.54,-21.91 -2.54,-21.27 -1.27,-21.27 ; -1.27,-16.83 -2.54,-16.83 -2.54,-16.19 -1.27,-16.19 ; -1.27,-11.75 -2.54,-11.75 -2.54,-11.11 -1.27,-11.11 ; -1.27,-6.67 -2.54,-6.67 -2.54,-6.03 -1.27,-6.03 ; -1.27,-1.59 -2.54,-1.59 -2.54,-0.95 -1.27,-0.95 ; -1.27,3.49 -2.54,3.49 -2.54,4.13 -1.27,4.13 ; -1.27,8.57 -2.54,8.57 -2.54,9.21 -1.27,9.21 ; -1.27,13.65 -2.54,13.65 -2.54,14.29 -1.27,14.29 ; -1.27,18.73 -2.54,18.73 -2.54,19.37 -1.27,19.37 ; -1.27,23.81 -2.54,23.81 -2.54,24.45 -1.27,24.45 ; -1.27,28.89 -2.54,28.89 -2.54,29.53 -1.27,29.53 ; -1.27,33.97 -2.54,33.97 -2.54,34.61 -1.27,34.61 ; -1.27,39.05 -2.54,39.05 -2.54,39.69 -1.27,39.69 ; -1.27,44.13 -2.54,44.13 -2.54,44.77 -1.27,44.77 ; -1.27,49.21 -2.54,49.21 -2.54,49.85 -1.27,49.85 ; 1.27,-49.85 2.54,-49.85 2.54,-49.21 1.27,-49.21 ; 1.27,-44.77 2.54,-44.77 2.54,-44.13 1.27,-44.13 ; 1.27,-39.69 2.54,-39.69 2.54,-39.05 1.27,-39.05 ; 1.27,-34.61 2.54,-34.61 2.54,-33.97 1.27,-33.97 ; 1.27,-29.53 2.54,-29.53 2.54,-28.89 1.27,-28.89 ; 1.27,-24.45 2.54,-24.45 2.54,-23.81 1.27,-23.81 ; 1.27,-19.37 2.54,-19.37 2.54,-18.73 1.27,-18.73 ; 1.27,-14.29 2.54,-14.29 2.54,-13.65 1.27,-13.65 ; 1.27,-9.21 2.54,-9.21 2.54,-8.57 1.27,-8.57 ; 1.27,-4.13 2.54,-4.13 2.54,-3.49 1.27,-3.49 ; 1.27,0.95 2.54,0.95 2.54,1.59 1.27,1.59 ; 1.27,6.03 2.54,6.03 2.54,6.67 1.27,6.67 ; 1.27,11.11 2.54,11.11 2.54,11.75 1.27,11.75 ; 1.27,16.19 2.54,16.19 2.54,16.83 1.27,16.83 ; 1.27,21.27 2.54,21.27 2.54,21.91 1.27,21.91 ; 1.27,26.35 2.54,26.35 2.54,26.99 1.27,26.99 ; 1.27,31.43 2.54,31.43 2.54,32.07 1.27,32.07 ; 1.27,36.51 2.54,36.51 2.54,37.15 1.27,37.15 ; 1.27,41.59 2.54,41.59 2.54,42.23 1.27,42.23 ; 1.27,46.67 2.54,46.67 2.54,47.31 1.27,47.31 ; -1.27,49.85 -1.27,-50.8 1.27,-50.8 1.27,50.8 -0.32,50.8 -1.27,49.85
  text "'.Designator'" at 0.84,-4.047 h1
Top Courtyard:
  lines w0.254: -3.41,-51.3 3.41,-51.3 3.41,51.3 -3.41,51.3 -3.41,-51.3
Top Designator:
  text ".Designator" at -7.618,-0.508 h1.52

## PinHeader_1x40_P2.54mm_Vertical_SMD_Pin1Right [mm]
pads (40):
  rect 2.51x1 smd: 1(1.655,49.53) 2(-1.655,46.99) 3(1.655,44.45) 4(-1.655,41.91) 5(1.655,39.37) 6(-1.655,36.83) 7(1.655,34.29) 8(-1.655,31.75) 9(1.655,29.21) 10(-1.655,26.67) 11(1.655,24.13) 12(-1.655,21.59) 13(1.655,19.05) 14(-1.655,16.51) 15(1.655,13.97) 16(-1.655,11.43) 17(1.655,8.89) 18(-1.655,6.35) 19(1.655,3.81) 20(-1.655,1.27) 21(1.655,-1.27) 22(-1.655,-3.81) 23(1.655,-6.35) 24(-1.655,-8.89) 25(1.655,-11.43) 26(-1.655,-13.97) 27(1.655,-16.51) 28(-1.655,-19.05) 29(1.655,-21.59) 30(-1.655,-24.13) 31(1.655,-26.67) 32(-1.655,-29.21) 33(1.655,-31.75) 34(-1.655,-34.29) 35(1.655,-36.83) 36(-1.655,-39.37) 37(1.655,-41.91) 38(-1.655,-44.45) 39(1.655,-46.99) 40(-1.655,-49.53)
F.SilkS:
  lines w0.254: -1.38,-50.34 -1.38,-50.91 1.38,-50.91 1.38,-47.8 ; -1.38,-48.72 -1.38,-45.26 ; -1.38,-43.64 -1.38,-40.18 ; -1.38,-38.56 -1.38,-35.1 ; -1.38,-33.48 -1.38,-30.02 ; -1.38,-28.4 -1.38,-24.94 ; -1.38,-23.32 -1.38,-19.86 ; -1.38,-18.24 -1.38,-14.78 ; -1.38,-13.16 -1.38,-9.7 ; -1.38,-8.08 -1.38,-4.62 ; -1.38,-3 -1.38,0.46 ; -1.38,2.08 -1.38,5.54 ; -1.38,7.16 -1.38,10.62 ; -1.38,12.24 -1.38,15.7 ; -1.38,17.32 -1.38,20.78 ; -1.38,22.4 -1.38,25.86 ; -1.38,27.48 -1.38,30.94 ; -1.38,32.56 -1.38,36.02 ; -1.38,37.64 -1.38,41.1 ; -1.38,42.72 -1.38,46.18 ; -1.38,50.34 -1.38,47.8 -1.38,50.91 1.38,50.91 1.38,50.34 2.85,50.34 ; 1.38,-46.18 1.38,-42.72 ; 1.38,-41.1 1.38,-37.64 ; 1.38,-36.02 1.38,-32.56 ; 1.38,-30.94 1.38,-27.48 ; 1.38,-25.86 1.38,-22.4 ; 1.38,-20.78 1.38,-17.32 ; 1.38,-15.7 1.38,-12.24 ; 1.38,-10.62 1.38,-7.16 ; 1.38,-5.54 1.38,-2.08 ; 1.38,-0.46 1.38,3 ; 1.38,4.62 1.38,8.08 ; 1.38,9.7 1.38,13.16 ; 1.38,14.78 1.38,18.24 ; 1.38,19.86 1.38,23.32 ; 1.38,24.94 1.38,28.4 ; 1.38,30.02 1.38,33.48 ; 1.38,35.1 1.38,38.56 ; 1.38,40.18 1.38,43.64 ; 1.38,45.26 1.38,48.72
Top Assembly:
  lines w0.254: -1.27,-49.85 -2.54,-49.85 -2.54,-49.21 -1.27,-49.21 ; -1.27,-44.77 -2.54,-44.77 -2.54,-44.13 -1.27,-44.13 ; -1.27,-39.69 -2.54,-39.69 -2.54,-39.05 -1.27,-39.05 ; -1.27,-34.61 -2.54,-34.61 -2.54,-33.97 -1.27,-33.97 ; -1.27,-29.53 -2.54,-29.53 -2.54,-28.89 -1.27,-28.89 ; -1.27,-24.45 -2.54,-24.45 -2.54,-23.81 -1.27,-23.81 ; -1.27,-19.37 -2.54,-19.37 -2.54,-18.73 -1.27,-18.73 ; -1.27,-14.29 -2.54,-14.29 -2.54,-13.65 -1.27,-13.65 ; -1.27,-9.21 -2.54,-9.21 -2.54,-8.57 -1.27,-8.57 ; -1.27,-4.13 -2.54,-4.13 -2.54,-3.49 -1.27,-3.49 ; -1.27,0.95 -2.54,0.95 -2.54,1.59 -1.27,1.59 ; -1.27,6.03 -2.54,6.03 -2.54,6.67 -1.27,6.67 ; -1.27,11.11 -2.54,11.11 -2.54,11.75 -1.27,11.75 ; -1.27,16.19 -2.54,16.19 -2.54,16.83 -1.27,16.83 ; -1.27,21.27 -2.54,21.27 -2.54,21.91 -1.27,21.91 ; -1.27,26.35 -2.54,26.35 -2.54,26.99 -1.27,26.99 ; -1.27,31.43 -2.54,31.43 -2.54,32.07 -1.27,32.07 ; -1.27,36.51 -2.54,36.51 -2.54,37.15 -1.27,37.15 ; -1.27,41.59 -2.54,41.59 -2.54,42.23 -1.27,42.23 ; -1.27,46.67 -2.54,46.67 -2.54,47.31 -1.27,47.31 ; 1.27,-47.31 2.54,-47.31 2.54,-46.67 1.27,-46.67 ; 1.27,-42.23 2.54,-42.23 2.54,-41.59 1.27,-41.59 ; 1.27,-37.15 2.54,-37.15 2.54,-36.51 1.27,-36.51 ; 1.27,-32.07 2.54,-32.07 2.54,-31.43 1.27,-31.43 ; 1.27,-26.99 2.54,-26.99 2.54,-26.35 1.27,-26.35 ; 1.27,-21.91 2.54,-21.91 2.54,-21.27 1.27,-21.27 ; 1.27,-16.83 2.54,-16.83 2.54,-16.19 1.27,-16.19 ; 1.27,-11.75 2.54,-11.75 2.54,-11.11 1.27,-11.11 ; 1.27,-6.67 2.54,-6.67 2.54,-6.03 1.27,-6.03 ; 1.27,-1.59 2.54,-1.59 2.54,-0.95 1.27,-0.95 ; 1.27,3.49 2.54,3.49 2.54,4.13 1.27,4.13 ; 1.27,8.57 2.54,8.57 2.54,9.21 1.27,9.21 ; 1.27,13.65 2.54,13.65 2.54,14.29 1.27,14.29 ; 1.27,18.73 2.54,18.73 2.54,19.37 1.27,19.37 ; 1.27,23.81 2.54,23.81 2.54,24.45 1.27,24.45 ; 1.27,28.89 2.54,28.89 2.54,29.53 1.27,29.53 ; 1.27,33.97 2.54,33.97 2.54,34.61 1.27,34.61 ; 1.27,39.05 2.54,39.05 2.54,39.69 1.27,39.69 ; 1.27,44.13 2.54,44.13 2.54,44.77 1.27,44.77 ; 1.27,49.21 2.54,49.21 2.54,49.85 1.27,49.85 ; 1.27,49.85 1.27,-50.8 -1.27,-50.8 -1.27,50.8 0.32,50.8 1.27,49.85
  text "'.Designator'" at 0.84,-4.047 h1
Top Courtyard:
  lines w0.254: -3.41,-51.3 3.41,-51.3 3.41,51.3 -3.41,51.3 -3.41,-51.3
Top Designator:
  text ".Designator" at -7.618,-0.508 h1.52

## PinHeader_2x01_P2.54mm_Horizontal [mm]
pads (2):
  rect 1.7x1.7 hole 1: 1(0,0)
  round 1.7 hole 1: 2(2.54,0)
F.SilkS:
  lines w0.254: -1.27,0 -1.27,1.27 0,1.27 ; 1.16,-0.43 1.463,-0.43 ; 1.16,0.43 1.463,0.43 ; 3.617,-0.43 3.93,-0.43 ; 3.617,0.43 3.93,0.43 ; 3.93,-1.38 6.69,-1.38 6.69,1.38 3.93,1.38 3.93,-1.38 ; 6.69,-0.43 12.69,-0.43 12.69,0.43 6.69,0.43 6.69,-0.43
Top Assembly:
  lines w0.254: 4.04,-0.32 -0.32,-0.32 -0.32,0.32 4.04,0.32 ; 6.58,-0.32 12.58,-0.32 12.58,0.32 6.58,0.32 ; 4.04,-1.27 6.58,-1.27 6.58,1.27 4.675,1.27 4.04,0.635 4.04,-1.27
  text "'.Designator'" at 6.15,-4.047 h1
Top Courtyard:
  lines w0.254: -1.77,-1.77 13.09,-1.77 13.09,1.77 -1.77,1.77 -1.77,-1.77
Top Designator:
  text ".Designator" at -1.958,-0.658 h1.52

## PinHeader_2x01_P2.54mm_Vertical [mm]
pads (2):
  rect 1.7x1.7 hole 1: 1(0,0)
  round 1.7 hole 1: 2(2.54,0)
F.SilkS:
  lines w0.254: -1.38,0 -1.38,1.38 0,1.38 ; -1.38,-1.38 3.92,-1.38 3.92,1.38 1.27,1.38 1.27,-1.27 -1.38,-1.27 -1.38,-1.38
Top Assembly:
  lines w0.254: -1.27,-1.27 3.81,-1.27 3.81,1.27 0,1.27 -1.27,0 -1.27,-1.27
  text "'.Designator'" at 2.11,-4.047 h1
Top Courtyard:
  lines w0.254: -1.77,-1.77 4.32,-1.77 4.32,1.77 -1.77,1.77 -1.77,-1.77
Top Designator:
  text ".Designator" at -6.343,-0.658 h1.52